# Altium footprint library PcbLib1_Source_IoT.PcbLib: 58 footprints (part 3 of 4)
Each footprint in its own frame and in the unit in brackets; x right, y up, seen from the top. Pads: shape width x height; smd on the part's side, far side on the other; paste and mask are expansions set on the pad; w line width, h text height; cw(c..) or ccw(c..) is an arc to the next point about the centre after c.
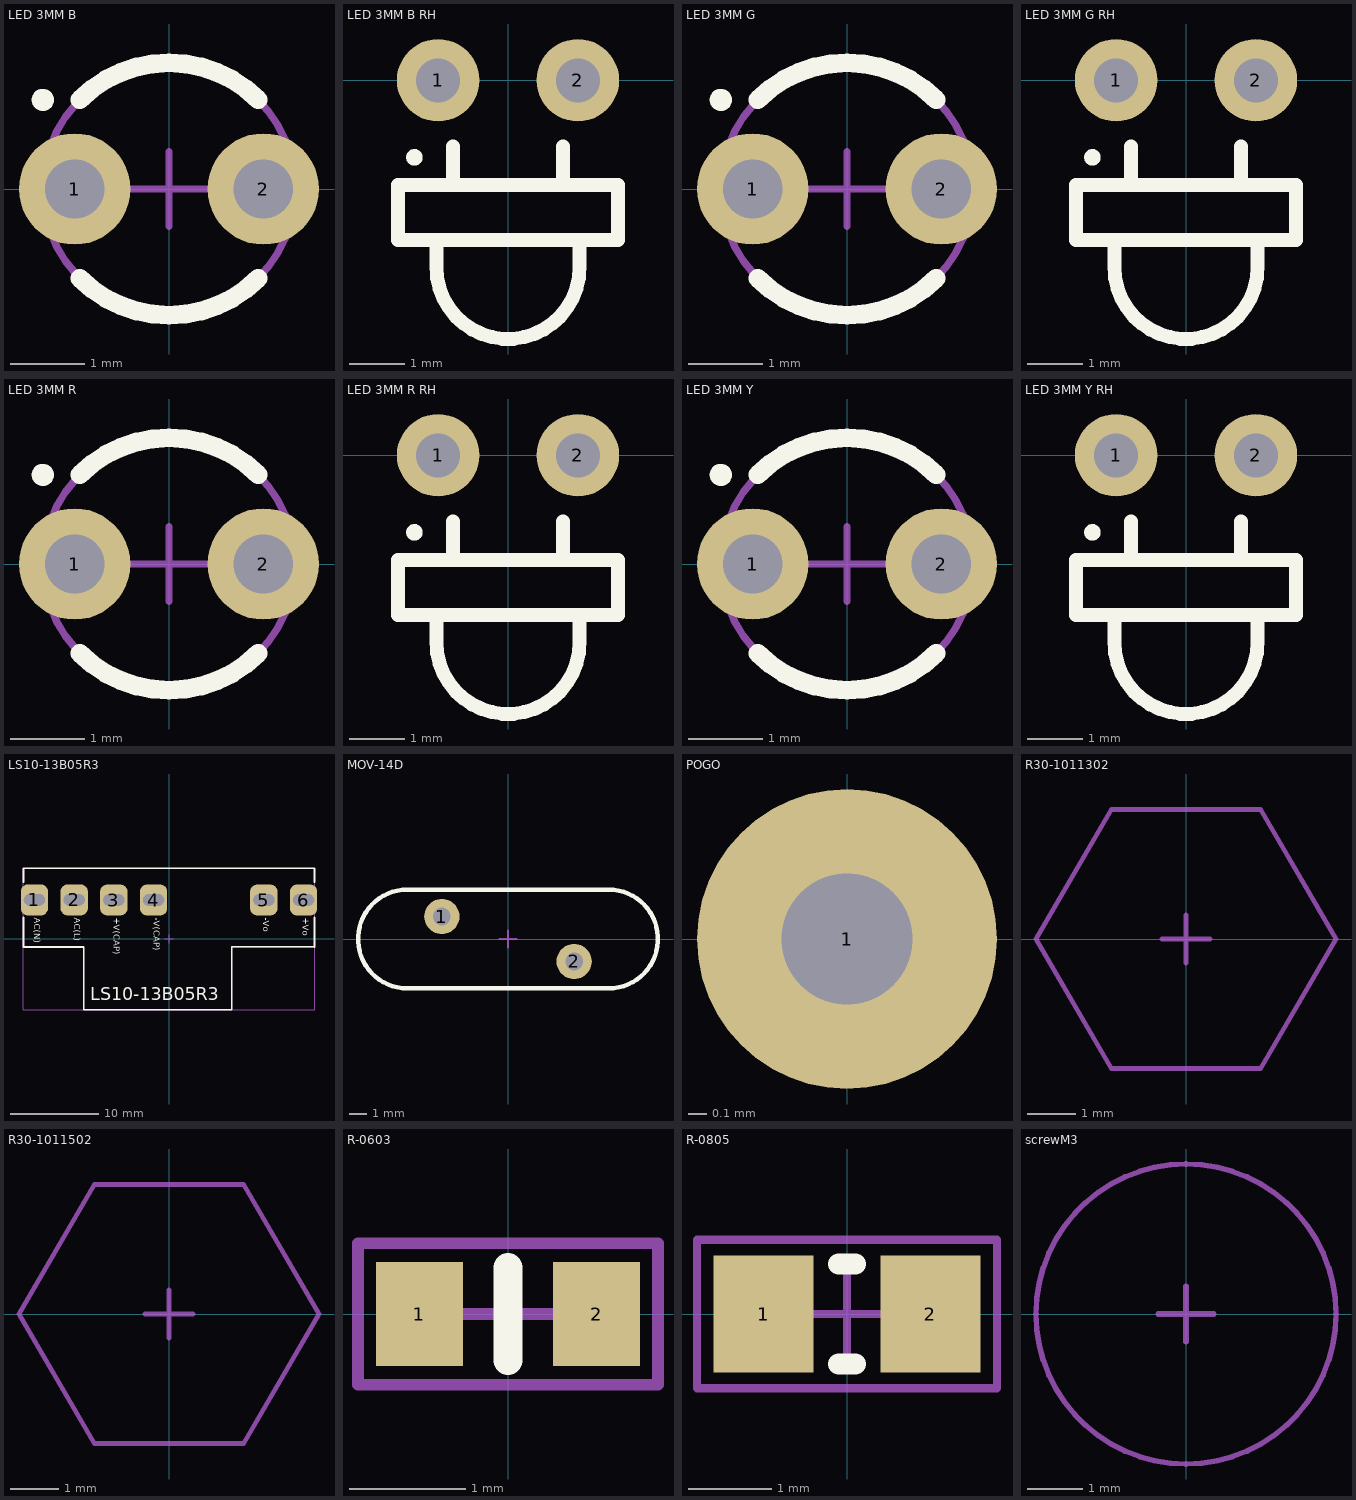
[diagram p2: the footprints below, top view; thin cyan lines are the x and y axes]

## LED 3MM B [mm]
pads (2):
  round 1.5 hole 0.8: 1(-1.27,0) 2(1.27,0)
Top Overlay:
  circle w0.1: c-1.7,1.2 r0.05
  circle w0.1: c-1.7,1.2 r0.1
  lines w0.254: -1.202,-1.202 ccw(c0,0) 1.202,-1.202 ; -1.202,1.202 cw(c0,0) 1.202,1.202
Mechanical:
  circle w0.1: c0,0 r1.699
  lines w0.1: -0.5,0 0.5,0 ; 0,-0.5 0,0.5
3D body "LED_B.stp": height 6.19, standoff -6.2, extent -1.688,-1.7 1.688,1.7

## LED 3MM B RH [mm]
pads (2):
  round 1.5 hole 0.8: 1(-1.27,0) 2(1.27,0)
Top Overlay:
  circle w0.1: c-1.7,-1.4 r0.05
  circle w0.1: c-1.7,-1.4 r0.1
  lines w0.254: -1.3,-2.9 -1.3,-3.4 ccw(c0,-3.4) 1.3,-3.4 1.3,-2.9 ; -1,-1.9 -1,-1.2 ; 1,-1.9 1,-1.2 ; -2,-2.9 2,-2.9 2,-1.9 -2,-1.9 -2,-2.9
3D body "LED_B_RH.stp": height 4.6, standoff -3, extent -1.688,-7.289 1.688,0.25

## LED 3MM G [mm]
pads (2):
  round 1.5 hole 0.8: 1(-1.27,0) 2(1.27,0)
Top Overlay:
  circle w0.1: c-1.7,1.2 r0.05
  circle w0.1: c-1.7,1.2 r0.1
  lines w0.254: -1.202,-1.202 ccw(c0,0) 1.202,-1.202 ; -1.202,1.202 cw(c0,0) 1.202,1.202
Mechanical:
  circle w0.1: c0,0 r1.699
  lines w0.1: -0.5,0 0.5,0 ; 0,-0.5 0,0.5
3D body "LED_G.stp": height 6.19, standoff -6.2, extent -1.688,-1.7 1.688,1.7

## LED 3MM G RH [mm]
pads (2):
  round 1.5 hole 0.8: 1(-1.27,0) 2(1.27,0)
Top Overlay:
  circle w0.1: c-1.7,-1.4 r0.1
  circle w0.1: c-1.7,-1.4 r0.05
  lines w0.254: -1.3,-2.9 -1.3,-3.4 ccw(c0,-3.4) 1.3,-3.4 1.3,-2.9 ; -1,-1.9 -1,-1.2 ; 1,-1.9 1,-1.2 ; -2,-2.9 -2,-1.9 2,-1.9 2,-2.9 -2,-2.9
3D body "LED_G_RH.stp": height 4.6, standoff -3, extent -1.688,-7.289 1.688,0.25

## LED 3MM R [mm]
pads (2):
  round 1.5 hole 0.8: 1(-1.27,0) 2(1.27,0)
Top Overlay:
  circle w0.1: c-1.7,1.2 r0.05
  circle w0.1: c-1.7,1.2 r0.1
  lines w0.254: -1.202,-1.202 ccw(c0,0) 1.202,-1.202 ; -1.202,1.202 cw(c0,0) 1.202,1.202
Mechanical:
  circle w0.1: c0,0 r1.699
  lines w0.1: -0.5,0 0.5,0 ; 0,-0.5 0,0.5
3D body "LED_R.stp": height 6.19, standoff -6.2, extent -1.688,-1.7 1.688,1.7

## LED 3MM R RH [mm]
pads (2):
  round 1.5 hole 0.8: 1(-1.27,0) 2(1.27,0)
Top Overlay:
  circle w0.1: c-1.7,-1.4 r0.05
  circle w0.1: c-1.7,-1.4 r0.1
  lines w0.254: -1.3,-2.9 -1.3,-3.4 ccw(c0,-3.4) 1.3,-3.4 1.3,-2.9 ; -1,-1.9 -1,-1.2 ; 1,-1.9 1,-1.2 ; -2,-2.9 2,-2.9 2,-1.9 -2,-1.9 -2,-2.9
3D body "LED_R_RH.stp": height 4.6, standoff -3, extent -1.688,-7.289 1.688,0.25

## LED 3MM Y [mm]
pads (2):
  round 1.5 hole 0.8: 1(-1.27,0) 2(1.27,0)
Top Overlay:
  circle w0.1: c-1.7,1.2 r0.1
  circle w0.1: c-1.7,1.2 r0.05
  lines w0.254: -1.202,-1.202 ccw(c0,0) 1.202,-1.202 ; -1.202,1.202 cw(c0,0) 1.202,1.202
Mechanical:
  circle w0.1: c0,0 r1.699
  lines w0.1: -0.5,0 0.5,0 ; 0,-0.5 0,0.5
3D body "LED_Y.stp": height 6.19, standoff -6.2, extent -1.688,-1.7 1.688,1.7

## LED 3MM Y RH [mm]
pads (2):
  round 1.5 hole 0.8: 1(-1.27,0) 2(1.27,0)
Top Overlay:
  circle w0.1: c-1.7,-1.4 r0.1
  circle w0.1: c-1.7,-1.4 r0.05
  lines w0.254: -1.3,-2.9 -1.3,-3.4 ccw(c0,-3.4) 1.3,-3.4 1.3,-2.9 ; -1,-1.9 -1,-1.2 ; 1,-1.9 1,-1.2 ; -2,-2.9 -2,-1.9 2,-1.9 2,-2.9 -2,-2.9
3D body "LED_Y_RH.stp": height 4.6, standoff -3, extent -1.688,-7.289 1.688,0.25

## LS10-13B05R3 [mm]
pads (6):
  rrect50% 3.1x3.5 hole 1.3 slot 2.4 at 0 deg: 1(-15.25,4.43) 2(-10.75,4.43) 3(-6.25,4.42) 4(-1.75,4.42) 5(10.75,4.42) 6(15.25,4.42)
Top Overlay:
  lines w0.2: -16.5,2.425 -16.5,-0.904 -9.662,-0.904 -9.662,-8.025 7.102,-8.025 ; -16.5,6.425 -16.5,8.025 16.5,8.025 16.5,6.425 ; 7.102,-8.007 7.102,-0.886 16.5,-0.886 ; 16.5,-0.895 16.5,2.425
  text "LS10-13B05R3" at -8.921,-7.473 h2.5
  text "+Vo" at 14.872,2.398 h1.2
  text "-Vo" at 10.372,2.398 h1.2
  text "-V(CAP)" at -2.028,2.398 h1.2
  text "+V(CAP)" at -6.528,2.398 h1.2
  text "AC(L)" at -11.028,2.398 h1.2
  text "AC(N)" at -15.528,2.398 h1.2
Top Assembly:
  lines w0.1: -16.5,-8.025 -16.5,8.025 16.5,8.025 16.5,-8.025 -16.5,-8.025
  text "'.Designator'" at -11,-6.966 h2
Mechanical:
  lines w0.1: -0.5,0 0.5,0 ; 0,-0.5 0,0.5 ; 7.102,-8.025 -9.662,-8.025 -9.662,-0.904 -16.5,-0.904 -16.5,8.025 16.5,8.025 16.5,-0.895 7.102,-0.895 7.102,-8.016
3D body "PCB2.step": height 18.62, standoff -1.42, extent -16.081,-7.653 15.965,7.522

## MOV-14D [mm]
pads (2):
  round 2 hole 1: 1(-3.75,1.275) 2(3.75,-1.275)
Top Overlay:
  lines w0.254: -5.7,-2.8 cw(c-5.7,0) -5.7,2.8 5.7,2.8 cw(c5.7,0) 5.7,-2.8 -5.7,-2.8
Top Assembly:
  lines w0.1: -5.7,-2.8 cw(c-5.7,0) -5.7,2.8 5.7,2.8 cw(c5.7,0) 5.7,-2.8 -5.7,-2.8
  text "'.Designator'" at -2.318,-0.559 h2
Mechanical:
  lines w0.1: -0.5,0 0.5,0 ; 0,-0.5 0,0.5 ; -5.7,-2.8 cw(c-5.7,0) -5.7,2.8 5.7,2.8 cw(c5.7,0) 5.7,-2.8 -5.7,-2.8
3D body "User Library-Varistor 14mm.step": height 20.49, standoff -2.5, extent -8.5,-2.8 8.499,2.8

## POGO [mm]
pads (1):
  round 1.6 hole 0.7: 1(0,0)
3D body "mill-max-0914-3-15-20-77-14-11-0.step": height 9.98, standoff -2.9, extent -0.914,-0.908 0.914,0.908

## R30-1011302 [mm]
Top Assembly:
  lines w0.1: -3.125,0 -1.55,2.7 1.55,2.7 3.125,0 1.55,-2.7 -1.55,-2.7 -3.125,0
  text "'.Designator'" at -1.025,1.175 h1.5
Mechanical:
  lines w0.1: -0.5,0 0.5,0 ; 0,-0.5 0,0.5 ; -3.125,0 -1.55,2.7 1.55,2.7 3.125,0 1.55,-2.7 -1.55,-2.7 -3.125,0
3D body "r30-1011302.stp": height -1.61, standoff -14.61, extent -3.118,-2.7 3.118,2.7

## R30-1011502 [mm]
Top Assembly:
  lines w0.1: -3.125,0 -1.55,-2.7 1.55,-2.7 3.125,0 1.55,2.7 -1.55,2.7 -3.125,0
  text "'.Designator'" at -1.4,-0.525 h2
Mechanical:
  lines w0.1: -0.5,0 0.5,0 ; 0,-0.5 0,0.5 ; -3.125,0 -1.55,-2.7 1.55,-2.7 3.125,0 1.55,2.7 -1.55,2.7 -3.125,0
3D body "r30-1011502.stp": height -1.6, standoff -16.6, extent -3.118,-2.7 3.118,2.7

## R-0603 [mm]
pads (2):
  rect 0.75x0.9 smd mask+0.1: 1(-0.765,0) 2(0.765,0)
Top Overlay:
  lines w0.254: 0,-0.4 0,0.4
Top Assembly:
  lines w0.1: -1.295,-0.61 -1.295,0.61 1.295,0.61 1.295,-0.61 -1.295,-0.61
  text "'.Designator'" at -0.975,-0.371 h1.2
Mechanical:
  lines w0.1: -0.375,0 0.375,0 ; 0,-0.375 0,0.375 ; -1.295,-0.61 -1.295,0.61 1.295,0.61 1.295,-0.61 -1.295,-0.61
3D body "User Library-Chip Resistor_0603 (1608).step": height 0.47, standoff 0, extent -0.8,-0.401 0.8,0.401

## R-0805 [mm]
pads (2):
  rect 1.2x1.4 smd: 1(-1,0) 2(1,0)
Top Overlay:
  lines w0.254: -0.1,-0.6 0.1,-0.6 ; -0.1,0.6 0.1,0.6
Top Assembly:
  lines w0.1: -1.8,-0.889 -1.8,0.889 1.8,0.889 1.8,-0.889 -1.8,-0.889
  text "'.Designator'" at -1.05,-0.371 h1.2
Mechanical:
  lines w0.1: -0.5,0 0.5,0 ; 0,-0.5 0,0.5 ; -1.8,-0.889 -1.8,0.889 1.8,0.889 1.8,-0.889 -1.8,-0.889
3D body "RESC-0805.stp": height 0.6, standoff 0, extent -1.05,-0.675 1.05,0.675

## screwM3 [mm]
Top Assembly:
  circle w0.1: c0,0 r2.725
  text "'.Designator'" at -1.375,-1.7 h1.5
Mechanical:
  circle w0.1: c0,0 r2.725
  lines w0.1: -0.5,0 0.5,0 ; 0,-0.5 0,0.5
3D body "keystone-PN7689-1.STEP": height 1.72, standoff -5.95, extent -2.719,-2.73 2.719,2.731